# Altium schematic symbol library CUSTOM TNY290PG.SchLib: 175 symbols (part 3 of 3)
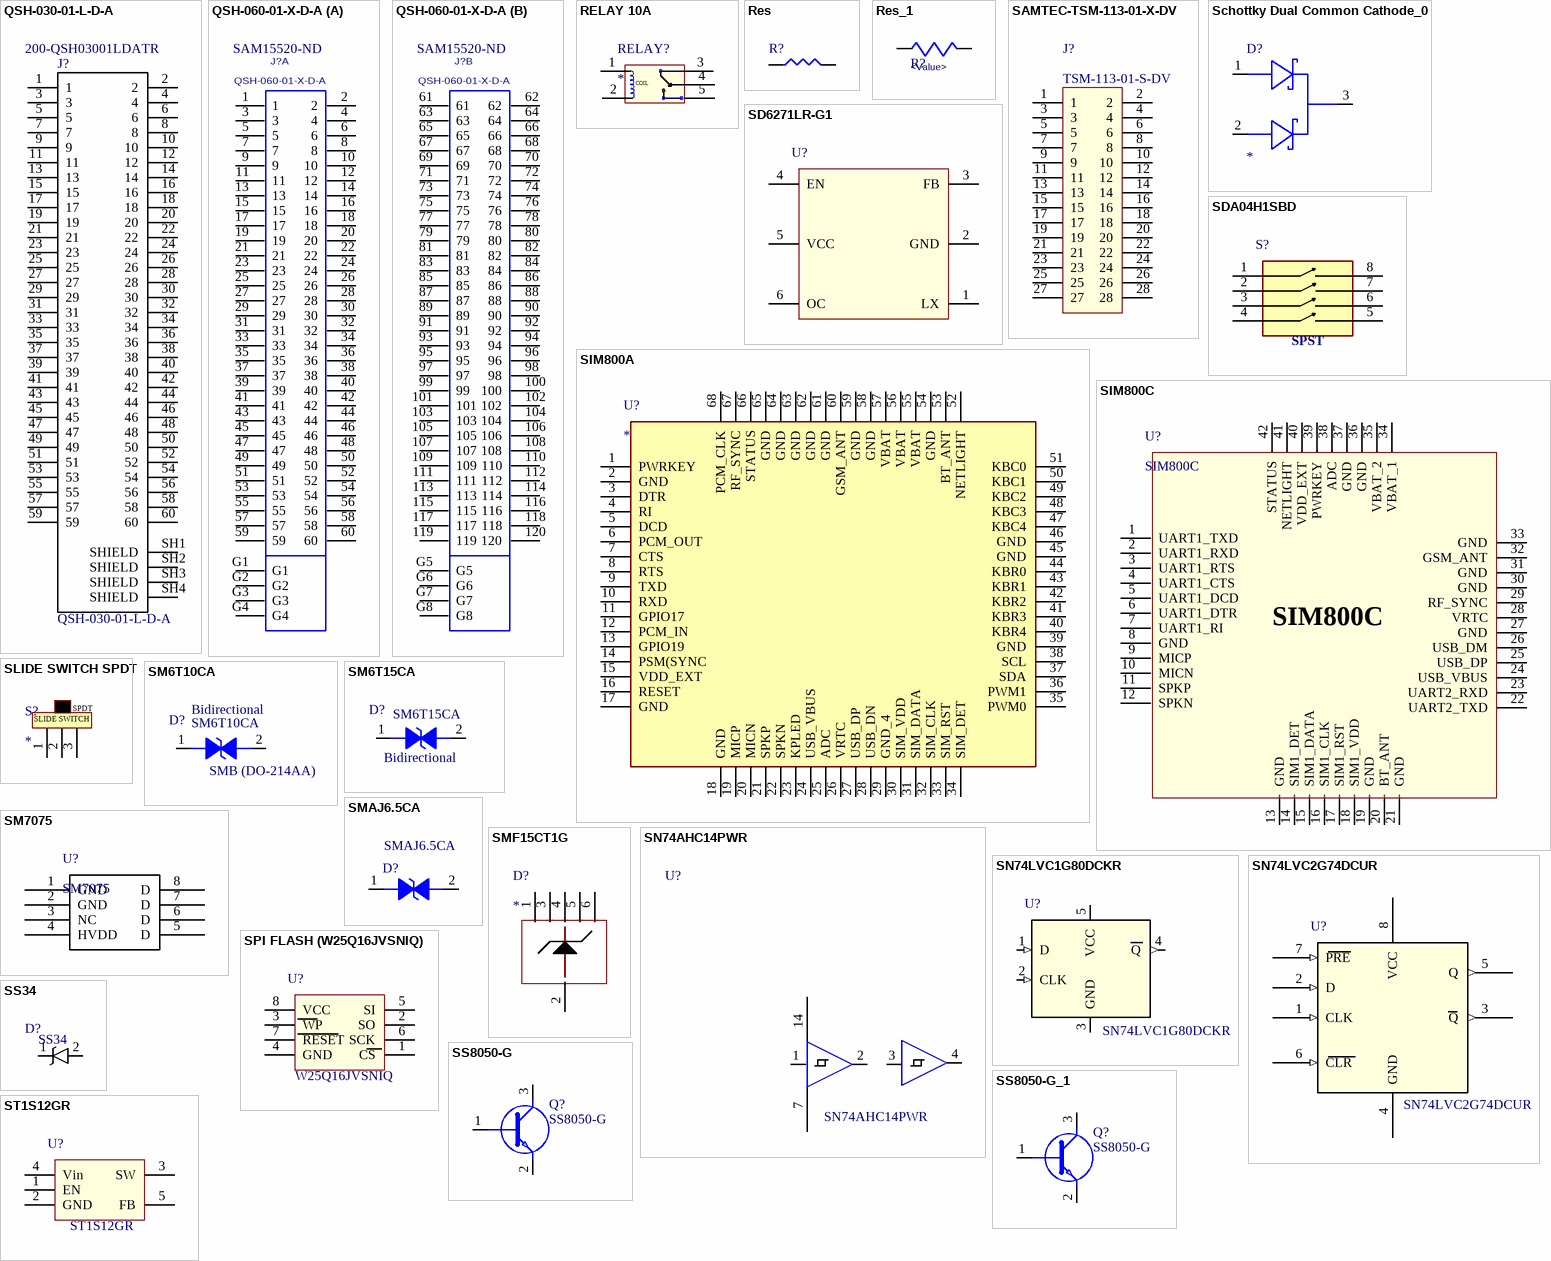
[diagram p8: symbols QSH-030-01-L-D-A to ST1S12GR]

## SN74AHC14PWR
designator U?, comment Manufacturer Part Number: SN74AHC14PWR  (hidden comment: Part Number: SN74AHC14PWR)
IC INVERTER SCHMITT 6CH 14TSSOP; Manufacturer: Texas Instruments; Number of Inputs: 6; Propagation Delay: 10.6ns; Output Current: 25mA; Min Supply Voltage: 2V; Max Supply Voltage: 5.5V; Logic Function: Buffer,Inverter,Schmitt Trigger; Quiescent Current: 2uA; High Level Output Current: -8mA; Low Level Output Current: 8mA; Turn-On Delay Time: 12ns; Schmitt Trigger Input: Yes; Operating Supply Voltage: 5V; Supplier 1: Digi-Key; Stock 1: 20969; Pricing 1: 1=0.48, 10=0.364, 100=0.227, 500=0.1553, 1000=0.1195 (USD); Mount: Surface Mount; Case/Package: 14-TSSOP; Number of Pins: 14; Weight: 0.002018oz; Contact Plating: Tin,Matte; Min Operating Temperature: -40°C; Max Operating Temperature: 125°C; Package Quantity: 1; Packaging: Tape and Reel; Number of Elements: 6; Number of Circuits: 6; Number of Gates: 6; Number of Bits: 6; Length: 5mm; Height: 1.15mm; Width: 4.4mm; Radiation Hardening: No; REACH SVHC: No SVHC; Lead Free: Lead Free; ComponentLink1URL: http://www.ti.com/lit/ds/symlink/sn74ahc14.pdf?src-supplier=Digi-Key; ComponentLink1Description: http://www.ti.com/lit/ds/symlink/sn74ahc14.pdf?src-supplier=Digi-Key; ComponentLink2URL: http://www.farnell.com/datasheets/1962896.pdf?src-supplier=Element14; ComponentLink2Description: http://www.farnell.com/datasheets/1962896.pdf?src-supplier=Element14; ComponentLink3URL: http://www.ti.com/lit/gpn/sn74ahc14?src-supplier=Mouser; ComponentLink3Description: http://www.ti.com/lit/gpn/sn74ahc14?src-supplier=Mouser; ComponentLink4URL: http://www.ti.com/general/docs/lit/getliterature.tsp?genericPartNumber=SN54AHC14&&fileType=pdf&src-supplier=Avnet; ComponentLink4Description: http://www.ti.com/general/docs/lit/getliterature.tsp?genericPartNumber=SN54AHC14&&fileType=pdf&src-supplier=Avnet; ComponentLink5URL: http://focus.ti.com/lit/ds/symlink/sn74ahc14.pdf?src-supplier=Avnet; ComponentLink5Description: http://focus.ti.com/lit/ds/symlink/sn74ahc14.pdf?src-supplier=Avnet; ComponentLink6URL: http://www.farnell.com/datasheets/1633735.pdf?src-supplier=Element14; ComponentLink6Description: http://www.farnell.com/datasheets/1633735.pdf?src-supplier=Element14; ComponentLink7URL: https://www.verical.com/server-webapp/html/getDatasheet?partID=248985&src-supplier=Verical; ComponentLink7Description: https://www.verical.com/server-webapp/html/getDatasheet?partID=248985&src-supplier=Verical; ComponentLink8URL: http://www.ti.com/lit/ds/symlink/sn54ahc14.pdf?src-supplier=Avnet+Europe; ComponentLink8Description: http://www.ti.com/lit/ds/symlink/sn54ahc14.pdf?src-supplier=Avnet+Europe; ComponentLink9URL: http://www.jameco.com/Jameco/Products/ProdDS/1383795.pdf?src-supplier=Jameco; ComponentLink9Description: http://www.jameco.com/Jameco/Products/ProdDS/1383795.pdf?src-supplier=Jameco; ComponentLink10URL: http://www.produktinfo.conrad.com/datenblaetter/1000000-1099999/001016189-da-01-en-IC_HEX_SCHM_TR_SN74AHC14PWR_TSSOP_14_TID.pdf?src-supplier=Conrad; ComponentLink10Description: http://www.produktinfo.conrad.com/datenblaetter/1000000-1099999/001016189-da-01-en-IC_HEX_SCHM_TR_SN74AHC14PWR_TSSOP_14_TID.pdf?src-supplier=Conrad; Supplier Part Number 1: 296-1086-1-ND
footprint 14-TSSOP
pins: 1 1A, 2 1Y, 3 2A, 4 2Y, 7 GND (power), 14 VCC (power)

## SN74LVC1G80DCKR
designator U?
IC FF D-TYPE SNGL 1BIT SC70-5; Manufacturer: Texas Instruments; Clock Edge Trigger Type: Positive Edge; Max Supply Voltage: 5.5V; Min Supply Voltage: 1.65V; Propagation Delay: 5.2ns; Frequency: 160MHz; Output Current: 32mA; Logic Function: D-Type,Flip-Flop; Number of Elements: 1; Turn-On Delay Time: 1.1ns; High Level Output Current: -32mA; Polarity: Inverting; Supplier 1: Digi-Key; Stock 1: 59765; Pricing 1: 1=0.36, 10=0.29, 100=0.1978, 500=0.1483, 1000=0.1112 (USD); Mount: Surface Mount; Case/Package: SC70-5; Number of Pins: 5; Weight: 8.8E-05oz; Min Operating Temperature: -40°C; Max Operating Temperature: 125°C; Packaging: Tape and Reel; Package Quantity: 3000; Number of Bits per Element: 1; Low Level Output Current: 32mA; Number of Circuits: 1; Number of Input Lines: 1; Number of Output Lines: 1; Number of Bits: 1; Max Frequency: 160MHz; Termination: SMD/SMT; Number of Gates: 1; Length: 2mm; Height: 0.9mm; Width: 1.25mm; Radiation Hardening: No; REACH SVHC: No SVHC; Lead Free: Lead Free; ComponentLink1URL: http://focus.ti.com/lit/ds/symlink/sn74lvc1g80.pdf?src-supplier=Avnet+Europe; ComponentLink1Description: http://focus.ti.com/lit/ds/symlink/sn74lvc1g80.pdf?src-supplier=Avnet+Europe; ComponentLink2URL: https://www.verical.com/server-webapp/html/getDatasheet?partID=189864&src-supplier=Verical; ComponentLink2Description: https://www.verical.com/server-webapp/html/getDatasheet?partID=189864&src-supplier=Verical; ComponentLink3URL: http://www.ti.com/lit/ds/symlink/sn74lvc1g80.pdf?src-supplier=Digi-Key; ComponentLink3Description: http://www.ti.com/lit/ds/symlink/sn74lvc1g80.pdf?src-supplier=Digi-Key; ComponentLink4URL: http://www.ti.com/general/docs/lit/getliterature.tsp?genericPartNumber=SN74LVC1G80&&fileType=pdf&src-supplier=Avnet; ComponentLink4Description: http://www.ti.com/general/docs/lit/getliterature.tsp?genericPartNumber=SN74LVC1G80&&fileType=pdf&src-supplier=Avnet; ComponentLink5URL: http://www.farnell.com/datasheets/1831218.pdf?src-supplier=Element14; ComponentLink5Description: http://www.farnell.com/datasheets/1831218.pdf?src-supplier=Element14; ComponentLink6URL: http://www.farnell.com/datasheets/1882705.pdf?src-supplier=Element14; ComponentLink6Description: http://www.farnell.com/datasheets/1882705.pdf?src-supplier=Element14; Supplier Part Number 1: 296-9852-6-ND; Manufacturer Part Number: SN74LVC1G80DCKR
footprint SC70-5
pins: 1 D (in), 2 CLK (in), 3 GND (power), 4 Q (out), 5 VCC (power)

## SN74LVC2G74DCUR
designator U?  Manufacturer Part Number: SN74LVC2G74DCUR
IC FF D-TYPE SNGL 1BIT US8; Manufacturer: Texas Instruments; Clock Edge Trigger Type: Positive Edge; Max Supply Voltage: 5.5V; Min Supply Voltage: 1.65V; Propagation Delay: 14.4ns; Frequency: 200MHz; Output Current: 32mA; Number of Elements: 1; Logic Function: AND,D-Type; Turn-On Delay Time: 4.1ns; High Level Output Current: -32mA; Polarity: Non-Inverting; Number of Gates: 2; Quiescent Current: 10uA; Supplier 1: Digi-Key; Stock 1: 34576; Pricing 1: 1=0.55, 10=0.467, 100=0.349, 500=0.2742, 1000=0.2119 (USD); Mount: Surface Mount; Case/Package: VSSOP; Number of Pins: 8; Weight: 0.000339oz; Contact Plating: Gold; Min Operating Temperature: -40°C; Max Operating Temperature: 125°C; Packaging: Tape and Reel; Package Quantity: 3000; Number of Bits per Element: 1; Low Level Output Current: 32mA; Number of Circuits: 1; Number of Input Lines: 1; Number of Output Lines: 1; Number of Bits: 1; Max Frequency: 200MHz; Termination: SMD/SMT; Number of Channels: 1; Length: 2.3mm; Height: 0.85mm; Width: 2mm; Radiation Hardening: No; REACH SVHC: No SVHC; Lead Free: Lead Free; ComponentLink1URL: https://www.verical.com/server-webapp/html/getDatasheet?partID=189863&src-supplier=Verical; ComponentLink1Description: https://www.verical.com/server-webapp/html/getDatasheet?partID=189863&src-supplier=Verical; ComponentLink2URL: http://www.ti.com/lit/ds/symlink/sn74lvc2g74.pdf?src-supplier=Digi-Key; ComponentLink2Description: http://www.ti.com/lit/ds/symlink/sn74lvc2g74.pdf?src-supplier=Digi-Key; ComponentLink3URL: http://www.farnell.com/datasheets/1849776.pdf?src-supplier=Element14; ComponentLink3Description: http://www.farnell.com/datasheets/1849776.pdf?src-supplier=Element14; ComponentLink4URL: http://focus.ti.com/lit/ds/symlink/sn74lvc2g74.pdf?src-supplier=Avnet+Europe; ComponentLink4Description: http://focus.ti.com/lit/ds/symlink/sn74lvc2g74.pdf?src-supplier=Avnet+Europe; ComponentLink5URL: http://www.ti.com/general/docs/lit/getliterature.tsp?genericPartNumber=SN74LVC2G74&amp;&amp;fileType=pdf&src-supplier=Avnet+Asia; ComponentLink5Description: http://www.ti.com/general/docs/lit/getliterature.tsp?genericPartNumber=SN74LVC2G74&amp;&amp;fileType=pdf&src-supplier=Avnet+Asia; ComponentLink6URL: http://www.jameco.com/Jameco/Products/ProdDS/757249.pdf?src-supplier=Jameco; ComponentLink6Description: http://www.jameco.com/Jameco/Products/ProdDS/757249.pdf?src-supplier=Jameco; ComponentLink7URL: http://www.ti.com/general/docs/lit/getliterature.tsp?genericPartNumber=SN74LVC2G74&&fileType=pdf&src-supplier=Avnet; ComponentLink7Description: http://www.ti.com/general/docs/lit/getliterature.tsp?genericPartNumber=SN74LVC2G74&&fileType=pdf&src-supplier=Avnet; ComponentLink8URL: http://www.produktinfo.conrad.com/datenblaetter/1000000-1099999/001074282-da-01-en-IC_D_TYPE_POS_T_SN74LVC2G74DCUR_US_8_TID.pdf?src-supplier=Conrad; ComponentLink8Description: http://www.produktinfo.conrad.com/datenblaetter/1000000-1099999/001074282-da-01-en-IC_D_TYPE_POS_T_SN74LVC2G74DCUR_US_8_TID.pdf?src-supplier=Conrad; ComponentLink9URL: http://datasheet.iiic.cc/texas_instruments/SN74LVC2G74DCUR.pdf?src-supplier=IIIC; ComponentLink9Description: http://datasheet.iiic.cc/texas_instruments/SN74LVC2G74DCUR.pdf?src-supplier=IIIC; Supplier Part Number 1: 296-12755-1-ND
footprint DCU8-M
pins: 1 CLK (in), 2 D (in), 3 Q (out), 4 GND (power), 5 Q (out), 6 CLR (in), 7 PRE (in), 8 VCC (power)

## SPI FLASH (W25Q16JVSNIQ)
designator U?  Manufacturer Part Number: W25Q16JVSNIQ  (hidden comment: *)
FLASH - NOR Memory IC 16Mb (2M x 8) SPI - Quad I/O 133MHz  8-SOIC; Manufacturer: Winbond; Interface: SPI,Serial; Page Size: 256B; Access Time: 6ns; Min Supply Voltage: 2.7V; Max Supply Voltage: 3.6V; Supplier 1: Digi-Key; Stock 1: 64142; Pricing 1: 1=0.49, 10=0.484, 25=0.4492, 50=0.4468, 100=0.397, 250=0.3918, 500=0.3859, 1000=0.3756, 5000=0.3376 (USD); Mount: Surface Mount; Case/Package: 8-SOIC; Number of Pins: 8; Min Operating Temperature: -40°C; Max Operating Temperature: 85°C; Memory Type: NOR; Packaging: Rail/Tube; Memory Size: 16Mb; Frequency: 133MHz; ComponentLink1URL: http://www.winbond.com/resource-files/w25q16jv%20spi%20revg%2003222018%20plus.pdf?src-supplier=Digi-Key; ComponentLink1Description: http://www.winbond.com/resource-files/w25q16jv%20spi%20revg%2003222018%20plus.pdf?src-supplier=Digi-Key; Supplier Part Number 1: W25Q16JVSNIQ-ND
footprint 8-SOIC
pins: 1 CS, 2 SO, 3 WP, 4 GND, 5 SI, 6 SCK, 7 RESET, 8 VCC

## SS34
designator D?  Manufacturer Part Number: SS34
40V 3A 550mV @ 3A SMA Schottky Barrier Diodes (SBD) RoHS; Value: SS34; Case/Package: SMA; ComponentLink1URL: https://datasheet.ciiva.com/30478/0900766b812769b5-30478676.pdf?src-supplier=RSComponents; ComponentLink1Description: https://datasheet.ciiva.com/30478/0900766b812769b5-30478676.pdf?src-supplier=RSComponents; ComponentLink2URL: https://datasheet.ciiva.com/25958/esd9x3-3st5g-d-25958458.pdf?src-supplier=Avnet+Europe; ComponentLink2Description: https://datasheet.ciiva.com/25958/esd9x3-3st5g-d-25958458.pdf?src-supplier=Avnet+Europe; ComponentLink3URL: https://datasheet.ciiva.com/1219/1748783-1219324.pdf?src-supplier=Newark; ComponentLink3Description: https://datasheet.ciiva.com/1219/1748783-1219324.pdf?src-supplier=Newark; ComponentLink4URL: https://datasheet.ciiva.com/3304/esd9x3-3st5g-d-3304012.pdf?src-supplier=Avnet; ComponentLink4Description: https://datasheet.ciiva.com/3304/esd9x3-3st5g-d-3304012.pdf?src-supplier=Avnet; ComponentLink5URL: https://datasheet.ciiva.com/339/esd9x3-3st5g-d-339709.pdf?src-supplier=Digi-Key; ComponentLink5Description: https://datasheet.ciiva.com/339/esd9x3-3st5g-d-339709.pdf?src-supplier=Digi-Key; ComponentLink6URL: https://datasheet.ciiva.com/16215/esd9x3-3st5g-d-16215149.pdf?src-supplier=Future+Electronics; ComponentLink6Description: https://datasheet.ciiva.com/16215/esd9x3-3st5g-d-16215149.pdf?src-supplier=Future+Electronics; ComponentLink7URL: https://datasheet.ciiva.com/339/esd9x3-3st5g-d-339710.pdf?src-supplier=Digi-Key; ComponentLink7Description: https://datasheet.ciiva.com/339/esd9x3-3st5g-d-339710.pdf?src-supplier=Digi-Key; ComponentLink8URL: https://datasheet.ciiva.com/339/esd9x3-3st5g-d-339711.pdf?src-supplier=Digi-Key; ComponentLink8Description: https://datasheet.ciiva.com/339/esd9x3-3st5g-d-339711.pdf?src-supplier=Digi-Key
footprint SMA_1
pins: 1 K, 2 A

## SS8050-G
designator Q?
Bipolar Transistors - BJT NPN TRANSISTOR 1.5A 40V; Manufacturer_Name: Comchip Technology; Geometry.Height: 1.15mm; Manufacturer_Part_Number: SS8050-G; RS Part Number: *; RS Price/Stock: *; Mouser Part Number: 750-SS8050-G; Mouser Price/Stock: https://www.mouser.com/Search/Refine.aspx?Keyword=750-SS8050-G; Datasheet Link: http://www.comchiptech.com/admin/files/product/SS8050-G%20RevA181526.pdf
footprint SOT95P240X115-3N
pins: 1 B, 2 E, 3 C

## SS8050-G_1
designator Q?, comment SS8050-G
Bipolar Transistors - BJT NPN TRANSISTOR 1.5A 40V; Manufacturer_Name: Comchip Technology; Geometry.Height: 1.15mm; Manufacturer_Part_Number: SS8050-G; RS Part Number: *; RS Price/Stock: *; Mouser Part Number: 750-SS8050-G; Mouser Price/Stock: https://www.mouser.com/Search/Refine.aspx?Keyword=750-SS8050-G; Datasheet Link: http://www.comchiptech.com/admin/files/product/SS8050-G%20RevA181526.pdf
footprint SOT95P240X115-3N
pins: 1 B, 2 E, 3 C

## ST1S12GR
designator U?
IC REG BUCK ADJ 700mA TSOT23-5; Manufacturer: STMicroelectronics; Number of Outputs: 1; Min Input Voltage: 2.5V; Max Input Voltage: 5.5V; Output Voltage: 1.2V; Efficiency: 90%; Switching Frequency: 1.7MHz; Synchronous Rectifier: Yes; Min Output Voltage: 600mV; Max Output Voltage: 5V; Output Type: Adjustable; Supplier 1: Mouser; Stock 1: 200; Pricing 1: 1=1.02, 10=0.871, 50=0.871, 100=0.669, 1000=0.467, 10000=0.399 (USD); Mount: Surface Mount; Case/Package: SOT-23-5; Number of Pins: 5; Min Operating Temperature: -40°C; Max Operating Temperature: 125°C; Operating Supply Voltage: 5.5V; Output Current: 700mA; Packaging: Tape and Reel; Package Quantity: 1; Max Output Current: 700mA; Radiation Hardening: No; REACH SVHC: No SVHC; Lead Free: Lead Free; ComponentLink1URL: http://www.st.com/st-web-ui/static/active/en/resource/technical/document/datasheet/CD00181873.pdf?src-supplier=Future+Electronics; ComponentLink1Description: http://www.st.com/st-web-ui/static/active/en/resource/technical/document/datasheet/CD00181873.pdf?src-supplier=Future+Electronics; ComponentLink2URL: https://www.verical.com/server-webapp/html/getDatasheet?partID=164460&src-supplier=Verical; ComponentLink2Description: https://www.verical.com/server-webapp/html/getDatasheet?partID=164460&src-supplier=Verical; ComponentLink3URL: http://www.st.com/web/en/resource/technical/document/datasheet/CD00181873.pdf?src-supplier=Avnet+Europe; ComponentLink3Description: http://www.st.com/web/en/resource/technical/document/datasheet/CD00181873.pdf?src-supplier=Avnet+Europe; ComponentLink4URL: http://www.st.com/content/ccc/resource/technical/document/datasheet/22/99/6c/42/0d/cc/47/8f/CD00181873.pdf/files/CD00181873.pdf/jcr:content/translations/en.CD00181873.pdf?src-supplier=Digi-Key; ComponentLink4Description: http://www.st.com/content/ccc/resource/technical/document/datasheet/22/99/6c/42/0d/cc/47/8f/CD00181873.pdf/files/CD00181873.pdf/jcr:content/translations/en.CD00181873.pdf?src-supplier=Digi-Key; ComponentLink5URL: http://www.produktinfo.conrad.com/datenblaetter/1100000-1199999/001185701-da-01-en-IC_REG_BUCK_SYNC_A_ST1S12GR_SOT_23_5_STM.pdf?src-supplier=Conrad; ComponentLink5Description: http://www.produktinfo.conrad.com/datenblaetter/1100000-1199999/001185701-da-01-en-IC_REG_BUCK_SYNC_A_ST1S12GR_SOT_23_5_STM.pdf?src-supplier=Conrad; Supplier Part Number 1: 511-ST1S12GR; Manufacturer Part Number: ST1S12GR
footprint SOT23-5
pins: 1 EN, 2 GND, 3 SW, 4 Vin, 5 FB

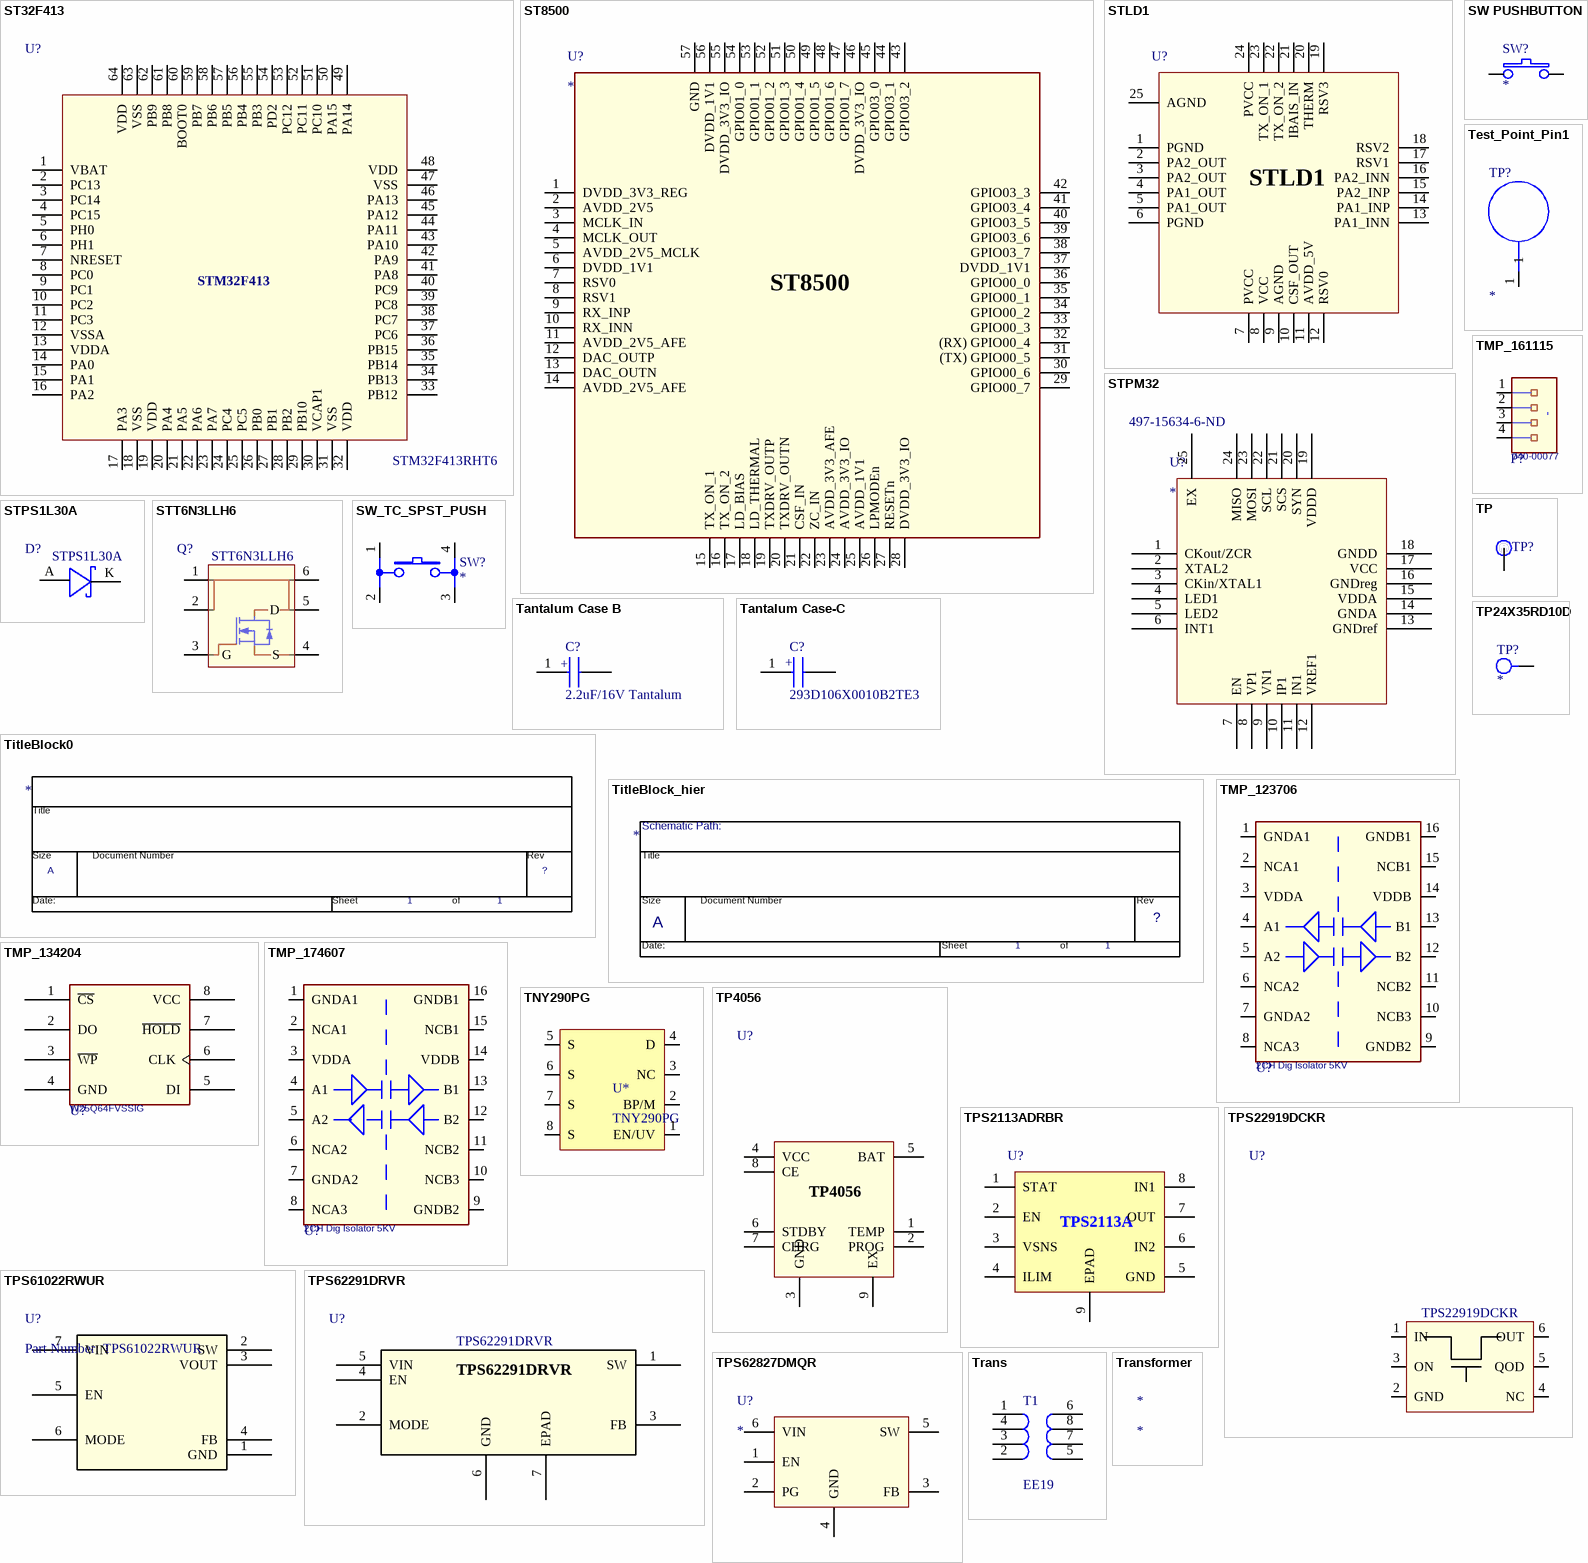
[diagram p5: symbols ST32F413 to Transformer]

## ST32F413
designator U?  Manufacturer Part Number 1: STM32F413RHT6
MCU 32-bit ARM Cortex M4 RISC 1.5MB Flash 3.3V 64-Pin LQFP Tray; Manufacturer 1: STMicroelectronics; Supplier 1: Digi-Key; RoHS: No; Category: Microcontrollers; Stock 1: 60; Pricing 1: 1=9.27000, 10=8.37100, 25=7.98160, 100=6.93030, 250=6.61880, 500=6.03478, 1000=5.25609 (USD); Supplier Part Number 1: 497-17012-ND
pins: 1 VBAT, 2 PC13, 3 PC14, 4 PC15, 5 PH0, 6 PH1, 7 NRESET, 8 PC0, 9 PC1, 10 PC2, 11 PC3, 12 VSSA, 13 VDDA, 14 PA0, 15 PA1, 16 PA2, 17 PA3, 18 VSS, 19 VDD, 20 PA4, 21 PA5, 22 PA6, 23 PA7, 24 PC4, 25 PC5, 26 PB0, 27 PB1, 28 PB2, 29 PB10, 30 VCAP1, 31 VSS, 32 VDD, 33 PB12, 34 PB13, 35 PB14, 36 PB15, 37 PC6, 38 PC7, 39 PC8, 40 PC9, 41 PA8, 42 PA9, 43 PA10, 44 PA11, 45 PA12, 46 PA13, 47 VSS, 48 VDD, 49 PA14, 50 PA15, 51 PC10, 52 PC11, 53 PC12, 54 PD2, 55 PB3, 56 PB4, 57 PB5, 58 PB6, 59 PB7, 60 BOOT0, 61 PB8, 62 PB9, 63 VSS, 64 VDD
text: STM32F413

## ST8500
designator U?
Telecom IC Power Line Communication Modem (PLC) 56-QFN (7x7); Manufacturer: STMicroelectronics; Manufacturer Part Number: ST8500; Interface: I2C,SPI,UART,USART; Number of Circuits: 1; Supplier 1: Mouser; Stock 1: 0; Pricing 1: 1=9.5, 10=8.58, 25=8.18, 50=8.18, 100=7.11, 250=6.79, 500=6.19, 1000=5.39, 2500=5.19, 5000=4.79, 10000=5.39 (USD); Mount: Surface Mount; Case/Package: QFN56 (7X7); Min Operating Temperature: -40°C; Max Operating Temperature: 105°C; ComponentLink1URL: https://www.st.com/resource/en/datasheet/st8500.pdf?src-supplier=Digi-Key; ComponentLink1Description: https://www.st.com/resource/en/datasheet/st8500.pdf?src-supplier=Digi-Key; Supplier Part Number 1: 511-ST8500
footprint QFN56-7x7mm
pins: 1 DVDD_3V3_REG, 2 AVDD_2V5, 3 MCLK_IN, 4 MCLK_OUT, 5 AVDD_2V5_MCLK, 6 DVDD_1V1, 7 RSV0, 8 RSV1, 9 RX_INP, 10 RX_INN, 11 AVDD_2V5_AFE, 12 DAC_OUTP, 13 DAC_OUTN, 14 AVDD_2V5_AFE, 15 TX_ON_1, 16 TX_ON_2, 17 LD_BIAS, 18 LD_THERMAL, 19 TXDRV_OUTP, 20 TXDRV_OUTN, 21 CSF_IN, 22 ZC_IN, 23 AVDD_3V3_AFE, 24 AVDD_3V3_IO, 25 AVDD_1V1, 26 LPMODEn, 27 RESETn, 28 DVDD_3V3_IO, 29 GPIO00_7, 30 GPIO00_6, 31 (TX) GPIO00_5, 32 (RX) GPIO00_4, 33 GPIO00_3, 34 GPIO00_2, 35 GPIO00_1, 36 GPIO00_0, 37 DVDD_1V1, 38 GPIO03_7, 39 GPIO03_6, 40 GPIO03_5, 41 GPIO03_4, 42 GPIO03_3, 43 GPIO03_2, 44 GPIO03_1, 45 GPIO03_0, 46 DVDD_3V3_IO, 47 GPIO01_7, 48 GPIO01_6, 49 GPIO01_5, 50 GPIO01_4, 51 GPIO01_3, 52 GPIO01_2, 53 GPIO01_1, 54 GPIO01_0, 55 DVDD_3V3_IO, 56 DVDD_1V1, 57 GND

## STLD1
designator U?  (value not drawn)
LIN Transceivers IND. & POWER CONV.; Manufacturer: STMicroelectronics; Operating Supply Current: 560uA; Supplier 1: Mouser; Manufacturer Part Number: STLD1; Stock 1: 0; Pricing 1: 1=5.25, 10=4.46, 50=4.46, 100=3.87, 250=3.67, 500=3.29, 1000=2.78, 2500=2.64, 5000=2.54, 10000=2.38 (USD); Mount: Surface Mount; Case/Package: QFN24 4X4; Min Operating Temperature: -40°C; Max Operating Temperature: 105°C; Packaging: Tray; Supplier Part Number 1: 511-STLD1
footprint QFN24-4x4MM (QFN24L (4x4x1) 0.5 pitch_STPM32)
pins: 1 PGND, 2 PA2_OUT, 3 PA2_OUT, 4 PA1_OUT, 5 PA1_OUT, 6 PGND, 7 PVCC, 8 VCC, 9 AGND, 10 CSF_OUT, 11 AVDD_5V, 12 RSV0, 13 PA1_INN, 14 PA1_INP, 15 PA2_INP, 16 PA2_INN, 17 RSV1, 18 RSV2, 19 RSV3, 20 THERM, 21 IBAIS_IN, 22 TX_ON_2, 23 TX_ON_1, 24 PVCC, 25 AGND

## STPM32
designator U?  Supplier Part Number 1: 497-15634-6-ND
Current & Power Monitors & Regulators Single Phase Metering ICs; Manufacturer: STMicroelectronics; Manufacturer Part Number: STPM32TR; Operating Supply Current: 3.9mA; Number of Channels: 2; Interface: SPI,Serial; Min Supply Voltage: 2.95V; Operating Supply Voltage: 3.3V; Max Supply Voltage: 3.65V; Accuracy: 0.5%; Supplier 1: Digi-Key; Stock 1: 8172; Pricing 1: 1=2.43, 10=2.186, 100=1.7573, 500=1.4438, 1000=1.1963 (USD); Mount: Surface Mount; Case/Package: QFN-24; Number of Pins: 24; Weight: 0.032741oz; Min Operating Temperature: -40°C; Max Operating Temperature: 85°C; Packaging: Tape and Reel; Package Quantity: 4000; Lead Free: Lead Free
footprint QFN24L (4x4x1) 0.5 pitch_STPM32
pins: 1 CKout/ZCR, 2 XTAL2, 3 CKin/XTAL1, 4 LED1, 5 LED2, 6 INT1, 7 EN, 8 VP1, 9 VN1, 10 IP1, 11 IN1, 12 VREF1, 13 GNDref, 14 GNDA, 15 VDDA, 16 GNDreg, 17 VCC, 18 GNDD, 19 VDDD, 20 SYN, 21 SCS, 22 SCL, 23 MOSI, 24 MISO, 25 EX

## STPS1L30A
designator D?  Manufacturer Part Number: STPS1L30A  (hidden comment: *)
Manufacturer: STMicroelectronics; Forward Current: 1A; Peak Reverse Current: 200uA; Max Repetitive Reverse Voltage (Vrrm): 30V; Peak Non-Repetitive Surge Current: 75A; Element Configuration: Single; Forward Voltage: 395mV; Polarity: Standard; Supplier 1: Digi-Key; Stock 1: 10180; Pricing 1: 1=0.45, 10=0.362, 100=0.2465, 500=0.1849, 1000=0.1387, 2500=0.1271 (USD); Mount: Surface Mount; Case/Package: SMA; Number of Pins: 2; Weight: 0.01lb; Contact Plating: Tin,Matte; Min Operating Temperature: -65°C; Max Operating Temperature: 150°C; Max Surge Current: 75A; Packaging: Tape and Reel; Package Quantity: 1; Max Reverse Leakage Current: 200uA; Average Rectified Current: 1A; Max Forward Surge Current (Ifsm): 75A; Voltage Rating (DC): 30V; Output Current: 1A; Current Rating: 1A; Max Reverse Voltage (DC): 30V; Length: 4.6mm; Height: 2.03mm; Width: 2.95mm; Radiation Hardening: No; REACH SVHC: No SVHC; Lead Free: Lead Free; ComponentLink1URL: http://www.farnell.com/datasheets/1690210.pdf?src-supplier=Farnell; ComponentLink1Description: http://www.farnell.com/datasheets/1690210.pdf?src-supplier=Farnell; ComponentLink2URL: http://www.st.com/web/en/resource/technical/document/datasheet/CD00001323.pdf?src-supplier=Future+Electronics; ComponentLink2Description: http://www.st.com/web/en/resource/technical/document/datasheet/CD00001323.pdf?src-supplier=Future+Electronics; ComponentLink3URL: http://www.st.com/st-web-ui/static/active/en/resource/technical/document/datasheet/CD00001323.pdf?src-supplier=Mouser; ComponentLink3Description: http://www.st.com/st-web-ui/static/active/en/resource/technical/document/datasheet/CD00001323.pdf?src-supplier=Mouser; ComponentLink4URL: http://www.st.com/content/ccc/resource/technical/document/datasheet/d4/83/f4/ff/dc/cc/48/7f/CD00001323.pdf/files/CD00001323.pdf/jcr:content/translations/en.CD00001323.pdf?src-supplier=Digi-Key; ComponentLink4Description: http://www.st.com/content/ccc/resource/technical/document/datasheet/d4/83/f4/ff/dc/cc/48/7f/CD00001323.pdf/files/CD00001323.pdf/jcr:content/translations/en.CD00001323.pdf?src-supplier=Digi-Key; ComponentLink5URL: http://www.farnell.com/datasheets/1690210.pdf?src-supplier=Element14; ComponentLink5Description: http://www.farnell.com/datasheets/1690210.pdf?src-supplier=Element14; Supplier Part Number 1: 497-6577-1-ND
footprint SMA
pins: A, K

## STT6N3LLH6
designator Q?  Manufacturer Part Number: STT6N3LLH6  (hidden comment: *)
Manufacturer: STMicroelectronics; Rise Time: 11.2ns; Rds On Max: 25mR; Input Capacitance: 283pF; Continuous Drain Current (ID): 6A; Drain to Source Breakdown Voltage: 30V; Fall Time: 5.4ns; Drain to Source Resistance: 40mR; Power Dissipation: 1.6W; Turn-Off Delay Time: 9.4ns; Turn-On Delay Time: 4.8ns; Element Configuration: Single; Gate to Source Voltage (Vgs): 20V; Supplier 1: Digi-Key; Stock 1: 0; Pricing 1: 3000=0.378, 6000=0.3591 (USD); Mount: Surface Mount; Case/Package: SOT-23-6; Number of Pins: 6; Min Operating Temperature: -55°C; Max Operating Temperature: 150°C; Packaging: Tape and Reel; Package Quantity: 3000; Drain to Source Voltage (Vdss): 30V; Max Power Dissipation: 1.6W; Length: 3.05mm; Height: 1.3mm; Width: 1.75mm; Radiation Hardening: No; Lead Free: Lead Free; ComponentLink1URL: http://www.mouser.com/ds/2/389/DM00051684-470726.pdf?src-supplier=Mouser; ComponentLink1Description: http://www.mouser.com/ds/2/389/DM00051684-470726.pdf?src-supplier=Mouser; ComponentLink2URL: http://www.st.com/web/en/resource/technical/document/datasheet/DM00051684.pdf?src-supplier=Avnet; ComponentLink2Description: http://www.st.com/web/en/resource/technical/document/datasheet/DM00051684.pdf?src-supplier=Avnet; ComponentLink3URL: http://www.st.com/content/ccc/resource/technical/document/datasheet/0f/e2/dd/d7/70/b0/47/68/DM00051684.pdf/files/DM00051684.pdf/jcr:content/translations/en.DM00051684.pdf?src-supplier=Digi-Key; ComponentLink3Description: http://www.st.com/content/ccc/resource/technical/document/datasheet/0f/e2/dd/d7/70/b0/47/68/DM00051684.pdf/files/DM00051684.pdf/jcr:content/translations/en.DM00051684.pdf?src-supplier=Digi-Key; Supplier Part Number 1: 497-13591-2-ND
footprint SOT-23-6
pins: 1 D, 2 D, 3 G, 4 S, 5 D, 6 D

## SW PUSHBUTTON
designator SW?
pins: 1, 2

## SW_TC_SPST_PUSH
designator SW?
PartNumber: 435-nnnnn
pins: 1, 2, 3, 4

## Tantalum Case B
designator C?, comment 2.2uF/16V Tantalum
Tantalum Capacitors - Solid SMD 50V 2.2uF 10% 2312 ESR = 2.5 Ohms; Manufacturer_Name: AVX; Manufacturer_Part_Number: TAJC225K050RNJV; Geometry.Height: 2.8mm; Mfr. No: 2.2uF/16V Tantalum; Mouser Price/Stock: https://www.mouser.com/Search/Refine.aspx?Keyword=581-TAJC225K050RNJV; RS Part Number: 581-TAJC225K050RNJV; RS Price/Stock: https://www.mouser.com/Search/Refine.aspx?Keyword=581-TAJC225K050RNJV; Datasheet Link: http://www.farnell.com/datasheets/1680476.pdf
footprint Tantalum Case-B
pins: 1 +, 2 -

## Tantalum Case-C
designator C?, comment 293D106X0010B2TE3
VISHAY - 293D106X0010B2TE3 - TANTALUM CAPACITOR, 10UF 10V, 2.5 OHM, 0.2, 3528-21; Value: 2.2uF/16V Tantalum; Package: Case-B; Mfr. No: 2.2uF/16V Tantalum
footprint Tantalum Case-C
pins: 1 +, 2 -

## Test_Point_Pin1
designator TP?
pins: 1

## TitleBlock0
designator *  Page Count: 1  Page Size: A  (graphical)
Page Create Date: March  8, 1995; Page Number: 1; RevCode: ?
text: Title; Size; Document Number; Rev; Date:; Sheet; of

## TitleBlock_hier
designator *  Page Size: A  Page Number: 1  (graphical)
Page Create Date: March  8, 1995; RevCode: ?; Page Count: 1
text: Title; Size; Document Number; Rev; Date:; Sheet; of

## TMP_123706
designator U?, comment 2CH Dig Isolator 5KV
IC, 10 Mbps, Digital Isolator, 5kV(rms), Dual Ch, SO16W; Device: 461-00041
footprint SOIC127P10-16
pins: 1 GNDA1, 2 NCA1, 3 VDDA, 4 A1, 5 A2, 6 NCA2, 7 GNDA2, 8 NCA3, 9 GNDB2, 10 NCB3, 11 NCB2, 12 B2, 13 B1, 14 VDDB, 15 NCB1, 16 GNDB1

## TMP_134204
designator U?, comment W25Q64FVSSIG
Flash, Serial, 64Mbit, 2.7 - 3.6V, SPI, SO8; Device: 473-00015
footprint soic127p742-8
pins: 1 ~{CS}, 2 DO, 3 ~{WP}, 4 GND (power), 5 DI, 6 CLK, 7 ~{HOLD}, 8 VCC

## TMP_161115
designator P?, comment 740-00077
Conn, hdr, vert, male, .10 cl, 1 x 4 pos, TH; Device: 740-00077
footprint con_740-00077
pins: 1, 2, 3, 4

## TMP_174607
designator U?, comment 2CH Dig Isolator 5KV
IC, 10 Mbps, Digital Isolator, 5kV(rms), Dual Ch, SO16W; Device: 461-00041
footprint SOIC127P10-16
pins: 1 GNDA1, 2 NCA1, 3 VDDA, 4 A1, 5 A2, 6 NCA2, 7 GNDA2, 8 NCA3, 9 GNDB2, 10 NCB3, 11 NCB2, 12 B2, 13 B1, 14 VDDB, 15 NCB1, 16 GNDB1

## TNY290PG
designator U*
AC/DC Converters 28.5 W (85-265 VAC) 36.5 W (230 VAC); Mfr.: Power Integrations; PART NUMBER: TNY290PG; MOUSER NO.: 869-TNY290PG; Package/Case: DIP-8C
footprint TNY290PG (AC/DC Converters 28.5 W (85-265 VAC) 36.5 W (230 VAC))
pins: 1 EN/UV, 2 BP/M, 3 NC, 4 D, 5 S, 6 S, 7 S, 8 S

## TP
designator TP?
TP
footprint TP (Tp)
pins: 1 TP

## TP24X35RD10D
designator TP?
footprint TP24X35RD10D
pins: 1

## TP4056
designator U?  (value not drawn)
1A Standalone Linear Li-lon Battery Charger with Thermal / Regulation in SOP-8; Case/Package: SOP-8; Manufacturer Part Number: TP4056
footprint SOP-8_TP4056 (BAT charging TP4056)
pins: 1 TEMP, 2 PROG, 3 GND, 4 VCC, 5 BAT, 6 STDBY, 7 CHRG, 8 CE, 9 EX

## TPS2113ADRBR
designator U?  (value not drawn)
Power Switch ICs -Autoswitching Pwr Mux 3-mm × 3-mm SON-8; Manufacturer: Texas Instruments; Manufacturer Part Number: TPS2113ADRBR; Description: IC OR CTRLR SRC SELECT 8SON; Number of Inputs: 2; Number of Outputs: 1; Output Current: 1.25A; Max Input Voltage: 5.5V; Min Input Voltage: 2.8V; Turn-On Delay Time: 1ms; Supplier 1: Digi-Key; RoHS: Yes; Category: Integrated Circuits (ICs); Stock 1: 3232; Pricing 1: 1=1.95000, 10=1.74900, 25=1.65000, 100=1.32000, 250=1.15500, 500=1.12200, 1000=0.89100 (USD); Case/Package: SON-8 (3X3); Number of Pins: 8; Min Operating Temperature: -40°C; Max Operating Temperature: 85°C; Packaging: Tape and Reel; Package Quantity: 3000; Max Output Current: 1.25A; Current - Output 2: 1.25A; Operating Supply Voltage: 5.5V; Radiation Hardening: No; Lead Free: Lead Free; ComponentLink1URL: https://datasheet.ciiva.com/15109/getdatasheetpartid-627486-15109322.pdf?src-supplier=Verical; ComponentLink1Description: https://datasheet.ciiva.com/15109/getdatasheetpartid-627486-15109322.pdf?src-supplier=Verical; ComponentLink2URL: https://datasheet.ciiva.com/3232/tps2112a-3232522.pdf?src-supplier=Avnet; ComponentLink2Description: https://datasheet.ciiva.com/3232/tps2112a-3232522.pdf?src-supplier=Avnet; ComponentLink3URL: https://datasheet.ciiva.com/1961/tps2113a-1961004.pdf?src-supplier=Digi-Key; ComponentLink3Description: https://datasheet.ciiva.com/1961/tps2113a-1961004.pdf?src-supplier=Digi-Key; Supplier Part Number 1: 296-46373-1-ND
footprint SON-8
pins: 1 STAT, 2 EN, 3 VSNS, 4 ILIM, 5 GND, 6 IN2, 7 OUT, 8 IN1, 9 EPAD
text: TPS2113A

## TPS22919DCKR
designator U?
5.5-V, 1.5-A, 90-mΩ load switch with adj. output discharge 6-SC70 -40 to 105; Manufacturer 1: Texas Instruments; Supplier 1: Digi-Key; RoHS: No; Stock 1: 5365; Case/Package: SC70-6; Supplier Part Number 1: 296-TPS22919DCKRCT-ND; Manufacturer Part Number: TPS22919DCKR
pins: 1 IN, 2 GND, 3 ON, 4 NC, 5 QOD, 6 OUT

## TPS61022RWUR
designator U?, comment Part Number: TPS61022RWUR
No Description Available; Manufacturer: Texas Instruments; Supplier 1: Mouser; Manufacturer Part Number: TPS61022RWUR; Stock 1: 23607; Pricing 1: 1=1.68, 10=1.43, 100=1.14, 500=1, 1000=0.829, 3000=0.772, 6000=0.743, 9000=0.715 (USD); Supplier Part Number 1: 595-TPS61022RWUR
footprint VQFN7_2P1X2P1
pins: 1 GND, 2 SW, 3 VOUT, 4 FB, 5 EN, 6 MODE, 7 VIN

## TPS62291DRVR
designator U?
Switching Voltage Regulators 2.25MHz 1A Step-Down Converter; Manufacturer: Texas Instruments; Output Voltage: 3.3V; Number of Outputs: 1; Max Input Voltage: 6V; Min Input Voltage: 2.3V; Synchronous Rectifier: Yes; Quiescent Current: 15uA; Output Type: Fixed; Output Configuration: Positive; Supplier 1: Digi-Key; Stock 1: 0; Number of Pins: 6; Weight: 0.000342oz; Min Operating Temperature: -40°C; Max Operating Temperature: 85°C; Switching Frequency: 2.25MHz; Output Current: 1A; Packaging: Tape and Reel; Package Quantity: 3000; Max Output Current: 1A; Min Output Voltage: 3.3V; Max Output Voltage: 3.3V; Operating Supply Voltage: 6V; Lead Free: Lead Free; ComponentLink1URL: http://www.ti.com/lit/ds/symlink/tps62293.pdf?src-supplier=Digi-Key; ComponentLink1Description: http://www.ti.com/lit/ds/symlink/tps62293.pdf?src-supplier=Digi-Key; ComponentLink2URL: http://www.ti.com/general/docs/lit/getliterature.tsp?genericPartNumber=TPS62291&&fileType=pdf&src-supplier=Avnet; ComponentLink2Description: http://www.ti.com/general/docs/lit/getliterature.tsp?genericPartNumber=TPS62291&&fileType=pdf&src-supplier=Avnet; ComponentLink3URL: http://components.arrow.com/part/dataview/43980678S8271694N7713?src-supplier=Arrow; ComponentLink3Description: http://components.arrow.com/part/dataview/43980678S8271694N7713?src-supplier=Arrow; Supplier Part Number 1: TPS62291DRVR-ND; Manufacturer Part Number: TPS62291DRVR
footprint WSON-6
pins: 1 SW, 2 MODE, 3 FB, 4 EN, 5 VIN (power), 6 GND (power), 7 EPAD

## TPS62827DMQR
designator U?
Manufacturer: Texas Instruments; Manufacturer Part Number: TPS62827DMQR; Pricing 1: 3000=0.8242, 6000=0.7925 (USD); Case/Package: VSON-6
footprint VSON-6
pins: 1 EN, 2 PG, 3 FB, 4 GND, 5 SW, 6 VIN

## Trans
designator T1, comment EE19
Transformer; Published: 24-Mar-1999; LatestRevisionDate: 08-Jul-2005; LatestRevisionNote: Mech Layer 1 removed.; PackageReference: TRANS; Publisher: Altium Limited; PackageDescription: Transformer; 4 Leads
footprint EE19 Transformer (DC/DC  converte)
footprint EE19 Transformer (DC/DC  converte)
pins: 1, 2, 3, 4 3, 5, 6, 7, 8

## Transformer
designator *

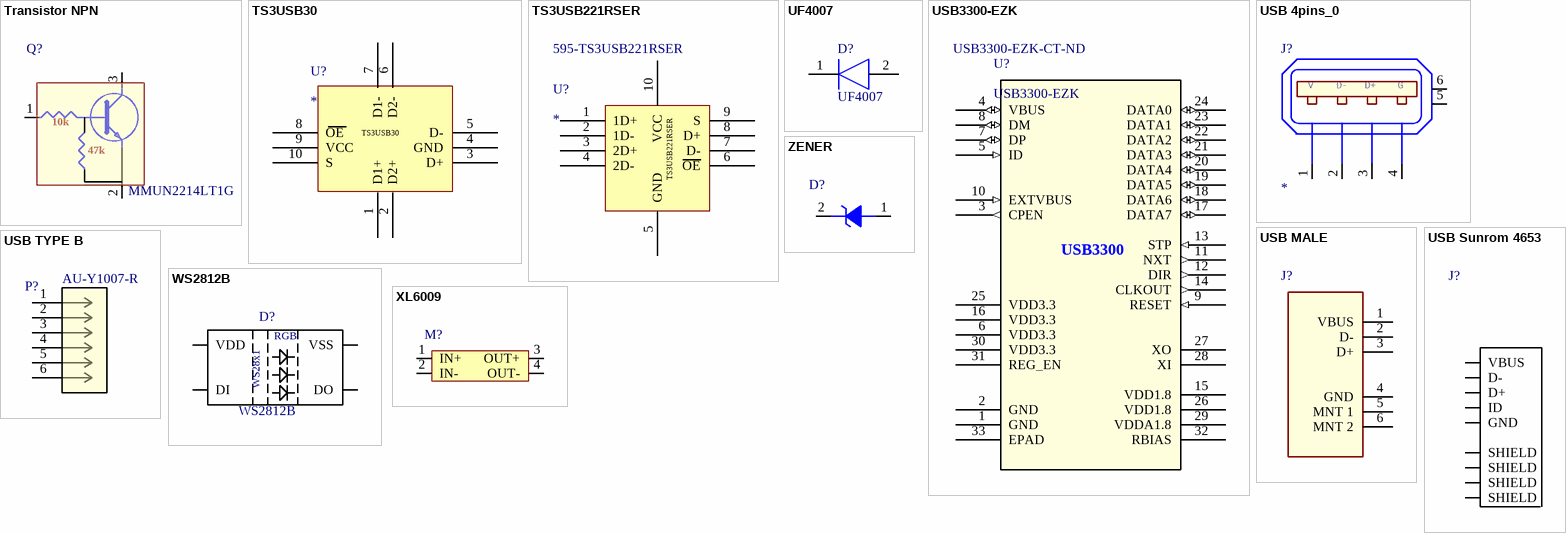
[diagram p6: symbols Transistor NPN to ZENER]

## Transistor NPN
designator Q?  Manufacturer Part Number: MMUN2214LT1G
Bipolar Transistors - Pre-Biased 100mA 50V BRT NPN; Manufacturer: ON Semiconductor; Max Power Dissipation: 246mW; hFE Min: 80; Collector Emitter Saturation Voltage: 250mV; Element Configuration: Single; Supplier 1: Mouser; Stock 1: 56410; Pricing 1: 1=0.12, 10=0.105, 50=0.105, 100=0.037, 1000=0.025, 10000=0.017 (USD); Case/Package: SOT-23-3; Number of Pins: 3; Contact Plating: Tin,Matte; Min Operating Temperature: -55°C; Max Operating Temperature: 150°C; Package Quantity: 1; Collector Emitter Voltage (VCEO): 50V; Packaging: Tape and Reel; Max Collector Current: 100mA; Collector Emitter Breakdown Voltage: 50V; Polarity: NPN; Max Breakdown Voltage: 50V; Max Output Current: 100mA; Operating Supply Voltage: 50V; Continuous Collector Current: 100mA; Power Dissipation: 246mW; Voltage Rating (DC): 50V; Current Rating: 100mA; Length: 2.9mm; Height: 0.94mm; Width: 1.3mm; Radiation Hardening: No; Lead Free: Lead Free; Halogen Free: Halogen Free; REACH SVHC: No SVHC; ComponentLink1URL: http://www.onsemi.ru.com/pub/Collateral/DTC114Y-D.PDF?src-supplier=Avnet+Europe; ComponentLink1Description: http://www.onsemi.ru.com/pub/Collateral/DTC114Y-D.PDF?src-supplier=Avnet+Europe; ComponentLink2URL: https://www.verical.com/server-webapp/html/getDatasheet?partID=38473&src-supplier=Verical; ComponentLink2Description: https://www.verical.com/server-webapp/html/getDatasheet?partID=38473&src-supplier=Verical; ComponentLink3URL: http://www.onsemi.com/pub/Collateral/DTC114Y-D.PDF?src-supplier=Digi-Key; ComponentLink3Description: http://www.onsemi.com/pub/Collateral/DTC114Y-D.PDF?src-supplier=Digi-Key; ComponentLink4URL: http://www.onsemi.com/pub/Collateral/DTC114Y-D.PDF?src-supplier=Future+Electronics; ComponentLink4Description: http://www.onsemi.com/pub/Collateral/DTC114Y-D.PDF?src-supplier=Future+Electronics; Supplier Part Number 1: 863-MMUN2214LT1G
footprint SOT95P240X115-3N
pins: 1 B, 2 E, 3 C
text: 10k; 47k

## TS3USB30
designator U?
ComponentLink1URL: http://www.ti.com/lit/ds/symlink/ts3usb30e.pdf?src-supplier=Digi-Key; ComponentLink1Description: http://www.ti.com/lit/ds/symlink/ts3usb30e.pdf?src-supplier=Digi-Key; ComponentLink2URL: http://www.farnell.com/datasheets/1719749.pdf?src-supplier=Element14; ComponentLink2Description: http://www.farnell.com/datasheets/1719749.pdf?src-supplier=Element14; ComponentLink3URL: http://focus.ti.com/lit/ds/symlink/ts3usb30e.pdf?src-supplier=Avnet; ComponentLink3Description: http://focus.ti.com/lit/ds/symlink/ts3usb30e.pdf?src-supplier=Avnet; ComponentLink4URL: https://www.verical.com/server-webapp/html/getDatasheet?partID=298587&src-supplier=Verical; ComponentLink4Description: https://www.verical.com/server-webapp/html/getDatasheet?partID=298587&src-supplier=Verical; ComponentLink5URL: http://focus.ti.com/lit/ds/symlink/ts3usb30e.pdf?src-supplier=Avnet+Europe; ComponentLink5Description: http://focus.ti.com/lit/ds/symlink/ts3usb30e.pdf?src-supplier=Avnet+Europe; ComponentLink6URL: http://www.farnell.com/datasheets/1882195.pdf?src-supplier=Element14; ComponentLink6Description: http://www.farnell.com/datasheets/1882195.pdf?src-supplier=Element14; ComponentLink7URL: http://datasheet.iiic.cc/texas_instruments/TS3USB30ERSWR.pdf?src-supplier=IIIC; ComponentLink7Description: http://datasheet.iiic.cc/texas_instruments/TS3USB30ERSWR.pdf?src-supplier=IIIC; ComponentLink8URL: http://www.produktinfo.conrad.com/datenblaetter/1100000-1199999/001187336-da-01-en-IC_USB_SWITCH_TS3USB30ERSWR_UQFN_10_TID.pdf?src-supplier=Conrad; ComponentLink8Description: http://www.produktinfo.conrad.com/datenblaetter/1100000-1199999/001187336-da-01-en-IC_USB_SWITCH_TS3USB30ERSWR_UQFN_10_TID.pdf?src-supplier=Conrad; ComponentLink9URL: http://www.ti.com/lit/ds/scds220g/scds220g.pdf?src-supplier=Avnet; ComponentLink9Description: http://www.ti.com/lit/ds/scds220g/scds220g.pdf?src-supplier=Avnet; ComponentLink10URL: http://www.ti.com/lit/ds/symlink/ts3usb221.pdf?src-supplier=Digi-Key; ComponentLink10Description: http://www.ti.com/lit/ds/symlink/ts3usb221.pdf?src-supplier=Digi-Key
footprint UQFN_TS3USB30
pins: 1 D1+, 2 D2+, 3 D+, 4 GND, 5 D-, 6 D2-, 7 D1-, 8 OE, 9 VCC, 10 S

## TS3USB221RSER
designator U?  Supplier Part Number 1: 595-TS3USB221RSER
USB Switch ICs Hi-Sp USB 2.0 1:2 Multipl/Demult Sw; Manufacturer: Texas Instruments; Manufacturer Part Number: TS3USB221RSER; Data Rate: 480Mbps; Number of Channels: 2; Min Supply Voltage: 2.3V; Max Supply Voltage: 3.6V; Bandwidth: 1.1GHz; Number of Inputs: 4; Operating Supply Voltage: 3V; Nominal Supply Current: 30uA; Turn-Off Delay Time: 12ns; On-State Resistance: 6R; Turn-On Delay Time: 30ns; Supply Type: Single; High Level Output Current: 64mA; USB Standard: USB 2.0; Supplier 1: Mouser; Stock 1: 25822; Pricing 1: 1=1.12, 10=0.952, 50=0.952, 100=0.732, 1000=0.51, 10000=0.436 (USD); Case/Package: UQFN-10; Number of Pins: 10; Weight: 0.000247oz; Contact Plating: Gold; Min Operating Temperature: -40°C; Max Operating Temperature: 85°C; Packaging: Tape and Reel; Number of Outputs: 2; Package Quantity: 1; Operating Supply Current: 30uA; Number of Ports: 2; Length: 1.5mm; Height: 0.55mm; Width: 2mm; Radiation Hardening: No; Lead Free: Lead Free; REACH SVHC: No SVHC; ComponentLink1URL: http://www.ti.com/lit/gpn/ts3usb221?src-supplier=Mouser; ComponentLink1Description: http://www.ti.com/lit/gpn/ts3usb221?src-supplier=Mouser; ComponentLink2URL: http://www.ti.com/lit/ds/symlink/ts3usb221.pdf?src-supplier=Digi-Key; ComponentLink2Description: http://www.ti.com/lit/ds/symlink/ts3usb221.pdf?src-supplier=Digi-Key; ComponentLink3URL: http://www.farnell.com/datasheets/2019041.pdf?src-supplier=Element14; ComponentLink3Description: http://www.farnell.com/datasheets/2019041.pdf?src-supplier=Element14; ComponentLink4URL: http://www.farnell.com/datasheets/1908158.pdf?src-supplier=Element14; ComponentLink4Description: http://www.farnell.com/datasheets/1908158.pdf?src-supplier=Element14; ComponentLink5URL: http://www.ti.com/general/docs/lit/getliterature.tsp?genericPartNumber=TS3USB221&&fileType=pdf&src-supplier=Element14; ComponentLink5Description: http://www.ti.com/general/docs/lit/getliterature.tsp?genericPartNumber=TS3USB221&&fileType=pdf&src-supplier=Element14; ComponentLink6URL: https://www.verical.com/server-webapp/html/getDatasheet?partID=48047&src-supplier=Verical; ComponentLink6Description: https://www.verical.com/server-webapp/html/getDatasheet?partID=48047&src-supplier=Verical; ComponentLink7URL: http://www.produktinfo.conrad.com/datenblaetter/1100000-1199999/001187309-da-01-en-IC_USB_SWITCH_TS3USB221RSER_UQFN_10_TID.pdf?src-supplier=Conrad; ComponentLink7Description: http://www.produktinfo.conrad.com/datenblaetter/1100000-1199999/001187309-da-01-en-IC_USB_SWITCH_TS3USB221RSER_UQFN_10_TID.pdf?src-supplier=Conrad
footprint UQFN-10TS3USB221RSER
pins: 1 1D+, 2 1D-, 3 2D+, 4 2D-, 5 GND, 6 OE, 7 D-, 8 D+, 9 S, 10 VCC

## UF4007
designator D?
ON SEMICONDUCTOR - UF4007 - DIODE, FAST, 1A, 1000V, DO-41; Manufacturer_Name: ON Semiconductor; Mfr. No: UF4007; Value: FAST, 1A, 1000V, DO-41; RS Price/Stock: http://uk.rs-online.com/web/p/products/1241306; Package: DO-41; Mouser Price/Stock: http://uk.rs-online.com/web/p/products/1241306; Datasheet Link: http://www.onsemi.com/pub/Collateral/UF4007-D.pdf
footprint DO-41_VERTICAL (Diode, Axial; Body 5.2 x 2.7 mm (LxDia. max), Lead Dia. 0.86 mm (max))
pins: 1 K, 2 A

## USB3300-EZK
designator U?  Supplier Part Number 1: USB3300-EZK-CT-ND
IC CONTROLLER USB 32QFN; Manufacturer: Microchip; Manufacturer Part Number: USB3300-EZK-TR; Operating Supply Voltage: 3.3V; Data Rate: 480Mbps; Supplier 1: Digi-Key; RoHS: Yes; Category: USB Interface ICs; Stock 1: 4754; Pricing 1: 1=1.24000, 25=1.04000, 100=0.95760 (USD); Mount: Surface Mount; Case/Package: QFN; Number of Pins: 32; Weight: 0.006653oz; Contact Plating: Tin,Matte; Min Operating Temperature: -40°C; Max Operating Temperature: 85°C; Packaging: Tape and Reel; Package Quantity: 4000; Radiation Hardening: No; Lead Free: Lead Free; ComponentLink1URL: https://datasheet.ciiva.com/6635/filehandler-aspxddocname-en562663-6635175.pdf?src-supplier=Digi-Key; ComponentLink1Description: https://datasheet.ciiva.com/6635/filehandler-aspxddocname-en562663-6635175.pdf?src-supplier=Digi-Key
footprint 32-QFN (5x5)
pins: 1 GND (power), 2 GND (power), 3 CPEN (out), 4 VBUS (io), 5 ID (in), 6 VDD3.3 (power), 7 DP (io), 8 DM (io), 9 RESET (in), 10 EXTVBUS (in), 11 NXT (out), 12 DIR (out), 13 STP (in), 14 CLKOUT (out), 15 VDD1.8 (power), 16 VDD3.3 (power), 17 DATA7 (io), 18 DATA6 (io), 19 DATA5 (io), 20 DATA4 (io), 21 DATA3 (io), 22 DATA2 (io), 23 DATA1 (io), 24 DATA0 (io), 25 VDD3.3 (power), 26 VDD1.8 (power), 27 XO, 28 XI, 29 VDDA1.8 (power), 30 VDD3.3 (power), 31 REG_EN, 32 RBIAS, 33 EPAD
text: USB3300

## USB 4pins_0
designator J?
pins: 1, 2, 3, 4, 5, 6
text: V; D-; D+; G

## USB MALE
designator J?  (value not drawn)
footprint Molex_48037-0001_0
pins: 1 VBUS, 2 D-, 3 D+, 4 GND, 5 MNT 1, 6 MNT 2

## USB Sunrom 4653
designator J?
Sunrom Product Code for Ordering:4653; Manufacturer Part Number: 4653; MF: Global Connector Technology; SnapEDA_Link: https://www.snapeda.com/parts/USB3075-30-A/Global%20Connector%20Technology/view-part/?ref=snap; Package: None; Availability: Unavailable; Price: None; Value: *
footprint USB_SUNROM_4653
pins: 1 VBUS (power), 2 D- (io), 3 D+ (io), 4 ID (io), 5 GND (power), 6 SHIELD, 7 SHIELD, 8 SHIELD, 9 SHIELD

## USB TYPE B
designator P?  Manufacturer Part Number: AU-Y1007-R
CONN RCPT USB1.1 TYPEB 4POS R/A; Manufacturer: Assmann; Max Current Rating: 1A; Connector Type: USB; Number of Contacts: 4; Gender: Receptacle; Number of Ports: 1; Pitch: 2.5mm; Supplier 1: Digi-Key; Stock 1: 0; Mount: Through Hole,Horizontal; Contact Material: Brass; Contact Plating: Gold; Number of Terminals: 4; Housing Material: Polybutylene; Min Operating Temperature: -55°C; Max Operating Temperature: 105°C; Package Quantity: 100; Packaging: Bulk; Number of Positions: 4; Termination: Solder; Orientation: Right Angle; Length: 16mm; Height: 10.6mm; Width: 12mm; Lead Free: Lead Free; ComponentLink1URL: http://www.onlinecomponents.com/productFiles/mf-ASS/au-y1007-r.pdf?src-supplier=Onlinecomponents.com; ComponentLink1Description: http://www.onlinecomponents.com/productFiles/mf-ASS/au-y1007-r.pdf?src-supplier=Onlinecomponents.com; ComponentLink2URL: https://media.digikey.com/pdf/Data%20Sheets/Assmann%20PDFs/AU-Y1007-R_Dwg.pdf?src-supplier=Digi-Key; ComponentLink2Description: https://media.digikey.com/pdf/Data%20Sheets/Assmann%20PDFs/AU-Y1007-R_Dwg.pdf?src-supplier=Digi-Key; Supplier Part Number 1: AE9925-ND
footprint CON4_1X4_USB_B_A
pins: 1, 2, 3, 4, 5, 6

## WS2812B
designator D?
Intelligent Control Led Integrated Light Source Pack Of 10; MF: Worldsemi; Availability: Unavailable; SnapEDA_Link: https://www.snapeda.com/parts/WS2812B/Adafruit%20Industries/view-part/?ref=snap; Price: None; Package: None; MP: WS2812B; Value: *
footprint WS2812B
pins: 1 VDD (io), 2 DO (io), 3 VSS (io), 4 DI (io)
text: RGB; WS28x1

## XL6009
designator M?
footprint XL6009
pins: 1 IN+, 2 IN-, 3 OUT+, 4 OUT-

## ZENER
designator D?  (value not drawn)
pins: 1, 2